# Altium integrated library Sterownik.IntLib: 54 symbols
Pins are listed as number, name and electrical type; pins without a type are passive.

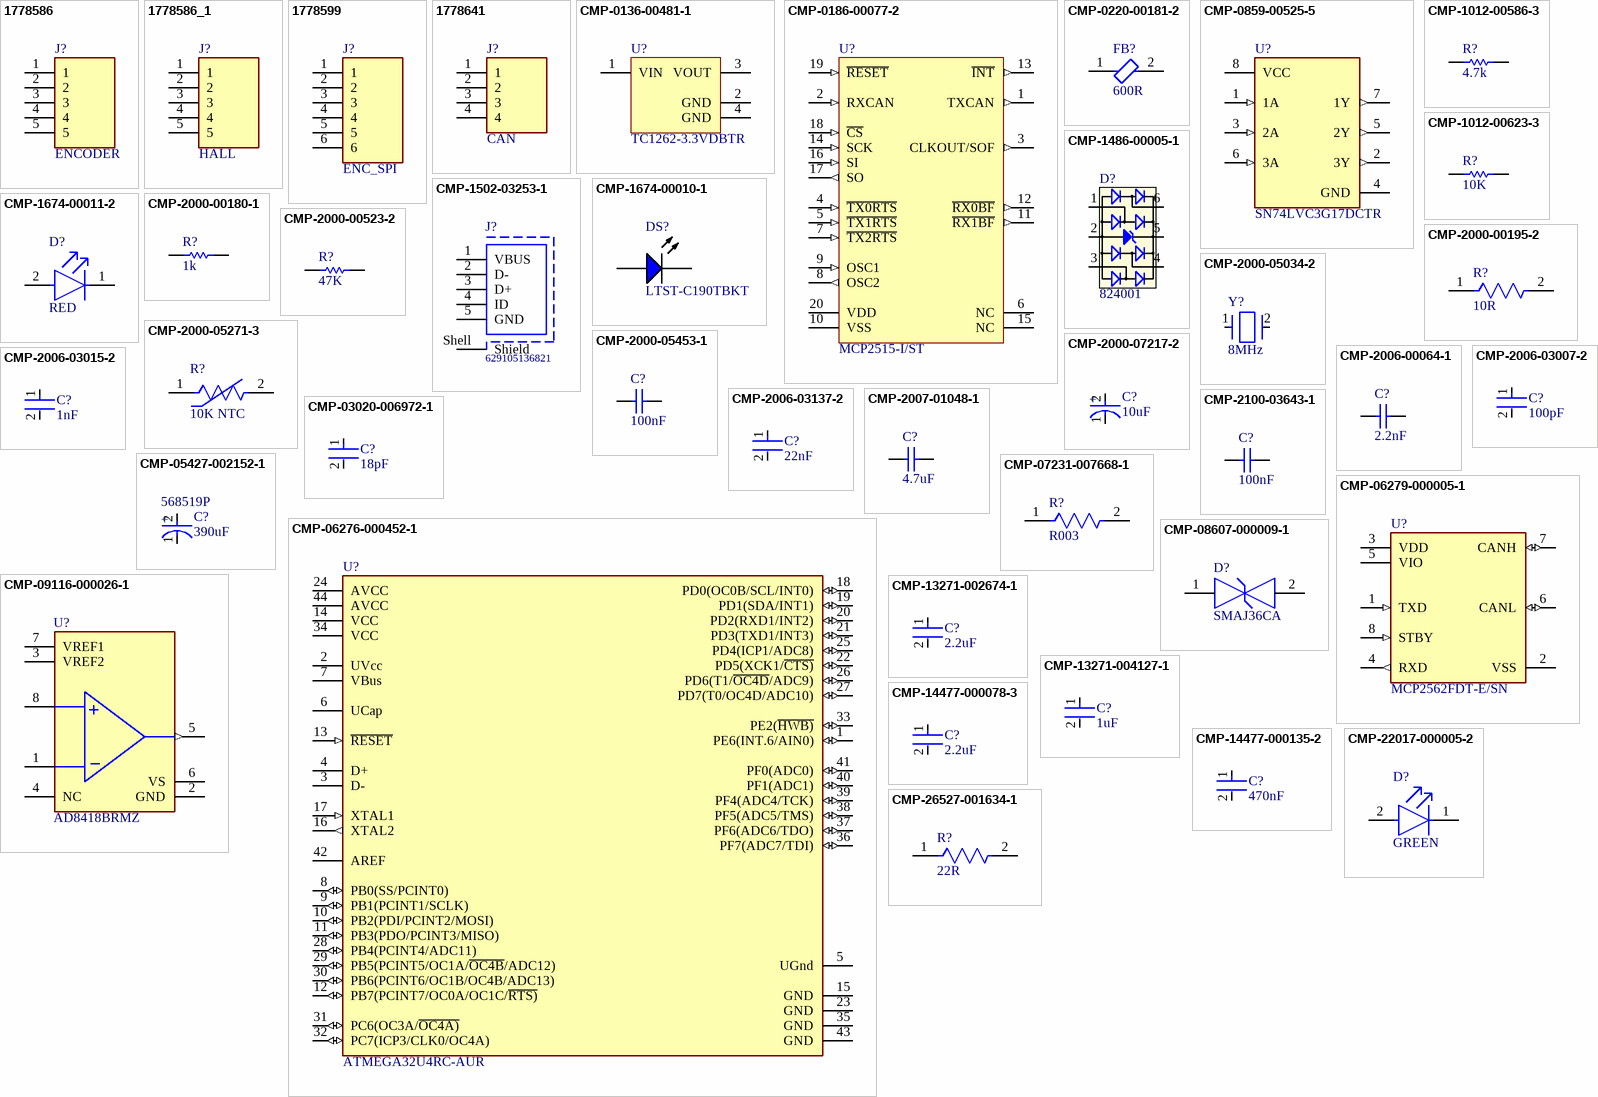
[diagram p0: symbols 1778586 to CMP-26527-001634-1]

## 1778586
designator J?, comment ENCODER
PCB header, nominal cross section: 0.5 mm?, color: black, nominal current: 6 A, rated voltage (III/2): 160 V, contact surface: Tin, type of contact: Male connector, Number of potentials: 6, Number of rows: 1, Number of positions per row: 6, number of connections: 6, product range: PTSM 0,5/..-HH-THR, pitch: 2.5 mm, mounting: THR soldering, pin layout: Linear pinning, solder pin [P]: 2.1 mm, Stecksystem: COMBICON COMPACT PTSM, Locking: without, type of packaging: 32 mm wide tape
footprint PTSM5
pins: 1, 2, 3, 4, 5

## 1778586_1
designator J?, comment HALL
PCB header, nominal cross section: 0.5 mm?, color: black, nominal current: 6 A, rated voltage (III/2): 160 V, contact surface: Tin, type of contact: Male connector, Number of potentials: 6, Number of rows: 1, Number of positions per row: 6, number of connections: 6, product range: PTSM 0,5/..-HH-THR, pitch: 2.5 mm, mounting: THR soldering, pin layout: Linear pinning, solder pin [P]: 2.1 mm, Stecksystem: COMBICON COMPACT PTSM, Locking: without, type of packaging: 32 mm wide tape
footprint PTSM5
pins: 1, 2, 3, 4, 5

## 1778599
designator J?, comment ENC_SPI
PCB header, nominal cross section: 0.5 mm?, color: black, nominal current: 6 A, rated voltage (III/2): 160 V, contact surface: Tin, type of contact: Male connector, Number of potentials: 5, Number of rows: 1, Number of positions per row: 5, number of connections: 5, product range: PTSM 0,5/..-HH-THR, pitch: 2.5 mm, mounting: THR soldering, pin layout: Linear pinning, solder pin [P]: 2.1 mm, Stecksystem: COMBICON COMPACT PTSM, Locking: without, type of packaging: 32 mm wide tape
footprint PTSM6
pins: 1, 2, 3, 4, 5, 6

## 1778641
designator J?, comment CAN
PCB header, nominal cross section: 0.5 mm?, color: black, nominal current: 6 A, rated voltage (III/2): 160 V, contact surface: Tin, type of contact: Male connector, Number of potentials: 4, Number of rows: 1, Number of positions per row: 4, number of connections: 4, product range: PTSM 0,5/..-HH-THR, pitch: 2.5 mm, mounting: THR soldering, pin layout: Linear pinning, solder pin [P]: 2.1 mm, Stecksystem: COMBICON COMPACT PTSM, Locking: without, type of packaging: 32 mm wide tape; Manufacturer_Name: Phoenix Contact; Manufacturer_Part_Number: 1778641; Geometry.Height: 5.1mm; Mouser Part Number: 651-1778641; Mouser Price/Stock: https://www.mouser.co.uk/ProductDetail/Phoenix-Contact/1778641?qs=i0qWf6NAoDs%252BwkQoFV1ycQ%3D%3D; Arrow Part Number: 1778641; Arrow Price/Stock: https://www.arrow.com/en/products/1778641/phoenix-contact?region=nac; Datasheet Link: http://www.phoenixcontact.com/de/produkte/1778641/pdf
footprint SHDRRA4W60P0X250_1X4_1170X750X510P
pins: 1, 2, 3, 4

## CMP-0136-00481-1
designator U?, comment TC1262-3.3VDBTR
500mA Fixed Output CMOS LDO, 3-Pin SOT-223, Extended Temperature, Tape and Reel; PackageVersion: revBB, Aug-2009; PackageDescription: 3-Lead Plastic Small Outline Transistor (DB) [SOT-223]; DatasheetVersion: revB, 2002; PackageReference: SOT-223-DB3
footprint SOT-223-DB3_M (SOT223, 4-Leads, Body 6.5x3.5mm, Pitch 2.3mm, Lead Span 7mm, IPC Low Density)
footprint SOT-223-DB3_L (SOT223, 4-Leads, Body 6.5x3.5mm, Pitch 2.3mm, Lead Span 7mm, IPC High Density)
footprint SOT-223-DB3_N (SOT223, 4-Leads, Body 6.5x3.5mm, Pitch 2.3mm, Lead Span 7mm, IPC Medium Density)
pins: 1 VIN (power), 2 GND (power), 3 VOUT (power), 4 GND (power)

## CMP-0186-00077-2
designator U?, comment MCP2515-I/ST
Stand-Alone CAN Controller With SPI Interface, 20-Pin TSSOP, Industrial Temperature; DatasheetVersion: revF, Oct-2010; ComponentLink1Description: Manufacturer URL; PackageDescription: 20-Lead Plastic Thin Shrink Small Outline (ST) - 4.4mm Body [TSSOP]; ComponentLink1URL: http://www.microchip.com/; RevisionNote: URLs added. DatasheetVersion updated.; PackageReference: TSSOP-ST20; Code_JEDEC: MO-153-AC; ComponentLink2Description: Datasheet; ComponentLink2URL: http://ww1.microchip.com/downloads/en/DeviceDoc/21801f.pdf; PackageVersion: revBB, Aug-2009; ComponentLink3URL: http://www.microchip.com/stellent/groups/techpub_sg/documents/packagingspec/en012702.pdf; ComponentLink3Description: Package Specification
footprint TSSOP-ST20_N (TSOP, 20-Leads, Body 6.5x4.4mm, Pitch 0.65mm, IPC Medium Density)
footprint TSSOP-ST20_M (TSOP, 20-Leads, Body 6.5x4.4mm, Pitch 0.65mm, IPC Low Density)
footprint TSSOP-ST20_L (TSOP, 20-Leads, Body 6.5x4.4mm, Pitch 0.65mm, IPC High Density)
pins: 1 TXCAN (out), 2 RXCAN (in), 3 CLKOUT/SOF (out), 4 ~{TX0RTS} (in), 5 ~{TX1RTS} (in), 6 NC, 7 ~{TX2RTS} (in), 8 OSC2 (out), 9 OSC1 (in), 10 VSS (power), 11 ~{RX1BF} (out), 12 ~{RX0BF} (out), 13 ~{INT} (out), 14 SCK (in), 15 NC, 16 SI (in), 17 SO (out), 18 ~{CS} (in), 19 ~{RESET} (in), 20 VDD (power)

## CMP-0220-00181-2
designator FB?, comment 600R
FERRITE BEAD 600 OHM 0603 1LN; Tolerance: 25%; DC Resistance (DCR): 200mR; Inductance: 0.36H; Current Rating: 1A; Test Frequency: 100MHz; Number of Lines: 1; Length: 1.6mm; Termination: SMD/SMT; Case Code (Metric): 1608; Case/Package: SMD/SMT; Min Operating Temperature: -55°C; Resistance: 200mR; Height: 0.8mm; Width: 0.8mm; Max Operating Temperature: 125°C; Package Quantity: 1; Mount: Surface Mount; Max DC Current: 1A; Max Current Rating: 1A; Weight: 0.000141oz; Packaging: Tape and Reel; Lead Free: Lead Free; Case Code (Imperial): 0603; Series: WE-CBF; Impedance: 600R; Core Material: Ferrite; Material: Ferrite; RoHS Compliant: Yes; Depth: 0.8mm
footprint FP-742792651-MFG
footprint FP-742792651-IPC_C
footprint FP-742792651-IPC_B
footprint FP-742792651-IPC_A
pins: 1, 2

## CMP-0859-00525-5
designator U?, comment SN74LVC3G17DCTR
IC BUFFER NON-INVERT 5.5V SM8; Manufacturer: Texas Instruments; Logic Function Desc: Non-Inverting; Propagation Delay: 5.1ns; Number Of Inputs: 3; Standoff Height: 0mm; Nominal Supply Current: 10uA; Min Supply Voltage: 1.65V; ComponentLink2URL: http://www.ti.com/lit/ds/symlink/sn74lvc3g17.pdf; Temperature: -40°C to +125°C; Device Class L1: Integrated Circuits (ICs); Mouser Description: Buffers & Line Drivers TRIPLE SCHMITT- TRIGGER BUFFER; Temperature Range Low: -40°C; Octopart: https://octopart.com/sn74lvc3g17dctr-texas+instruments-423176; Number Of Outputs: 3; Manufacturer Part Number: SN74LVC3G17DCTR; Device Class L2: Logic ICs; Ambient Temperature Range Low: -40°C; Max Supply Voltage: 5.5V; Automotive: No; Temperature Range High: +125°C; Category: IC; Digikey Description: IC BUFFER NON-INVERT 5.5V SM8; Package: DCT0008A; Device Class L3: Buffers; Height: 1.3mm; RoHS: TRUE; Lead Free: Yes; Ambient Temperature Range High: +125°C; Ipc Land Pattern Name: SOP65P400X130-8; ComponentLink2Description: Datasheet; Number Of Circuits: 3
footprint FP-DCT0008A-MFG
footprint FP-DCT0008A-IPC_C
footprint FP-DCT0008A-IPC_B
footprint FP-DCT0008A-IPC_A
pins: 1 1A (in), 2 3Y (out), 3 2A (in), 4 GND (power), 5 2Y (out), 6 3A (in), 7 1Y (out), 8 VCC (power)

## CMP-1012-00586-3
designator R?, comment 4.7k
Precision Thick Film Chip Resistor, 4.7 KOhm, +/- 1%, -55 to 155 degC, 0603 (1608 Metric), RoHS, Tape and Reel; Resistance: 220 Ohm; Voltage Rating: 50 V; Elements: 4; Case\Package: 1205; Tolerance: 5%; Power Rating: 250 mW; PackageReference: 0603; Max Operating Temperature: 125 degC; REACH SVHC: No SVHC; Width: 0.063 inch; Length: 0.126 inch; Height: 0.024 inch; Mount: Surface Mount; Package Quantity: 1; DatasheetVersion: Apr-15; ComponentLink1Description: Manufacturer URL; Min Operating Temperature: -55 degC; Packaging: Tape and Reel; Radiation Hardening: No; ComponentLink2URL: http://industrial.panasonic.com/cdbs/www-data/pdf/RDA0000/AOA0000C86.pdf; Case Code (Metric): 3216; Pins: 8; Case Code (Imperial): 1206; Type (Resistor): Thick Film; RoHSCompliant: true; ComponentLink2Description: Datasheet; PackageDescription: 2-Pin Surface Mount Device, Body 1.6 x 0.85 mm; ComponentLink1URL: http://www.panasonic.com/
footprint RESC1608X55X30NL15T15 (Chip Resistor, 2-Leads, Body 1.75x0.95mm, IPC Medium Density)
footprint RESC1608X55X30ML15T15 (Chip Resistor, 2-Leads, Body 1.75x0.95mm, IPC Low Density)
footprint RESC1608X55X30LL15T15 (Chip Resistor, 2-Leads, Body 1.75x0.95mm, IPC High Density)
pins: 1, 2

## CMP-1012-00623-3
designator R?, comment 10K
Chip Resistor, 10 KOhm, +/- 1%, 0.1 W, -55 to 155 degC, 0603 (1608 Metric), RoHS, Tape and Reel; Manufacturer: Panasonic; Voltage Rating: 75V; Case\/Package: 0603; Power Rating: 100mW; Resistance: 10KOhm; Temperature Coefficient: 100ppm\/degreesC; Number of Pins: 2; Package Reference: 603; Depth: 0.8mm; Mount: SurfaceMount; Package Description: 2-Pin Surface Mount Device, Body 1.6 x 0.85 mm; Datasheet Version: 02/2017; Length: 1.6mm; Lead Free: LeadFree; Height: 0.45mm; Number of Terminations: 2; Max Power Dissipation: 100mW; Min Operating Temperature: -55degC; Datasheet URL: https://industrial.panasonic.com/cdbs/www-data/pdf/RDA0000/AOA0000C304.pdf; Termination: SMD/SMT; Case Code (Metric): 1608; Case Code (Imperial): 0603; Tolerance: 1%; Max Operating Temperature: 155degC; RoHSCompliant: true; Voltage Rating (DC): 75V; Radiation Hardening: No; Packaging: TapeandReel; Composition: ThickFilm; Mounting Technology: SurfaceMount; Manufacturer URL: http://www.panasonic.com/; Width: 0.031inch; REACH SVHC: NoSVHC; Contact Plating: Tin; Military Standard: Not; Package Quantity: 1
footprint RESC1609X55X30LL15T15 (Chip Resistor, 2-Leads, Body 1.75x0.95mm, IPC High Density)
footprint RESC1609X55X30ML15T15 (Chip Resistor, 2-Leads, Body 1.75x0.95mm, IPC Low Density)
footprint RESC1609X55X30NL15T15 (Chip Resistor, 2-Leads, Body 1.75x0.95mm, IPC Medium Density)
pins: 1, 2

## CMP-1486-00005-1
designator D?, comment 824001
TVS Diode WE-TVS-HS, VRWM=5V; Manufacturer: Wuerth Elektronik; Reverse Stand Off Voltage: 5V; ComponentLink2Description: Datasheet; ComponentLink1URL: http://www.we-online.com; ComponentLink2URL: http://katalog.we-online.de/kataloge/eisos/media/pdf/824001.pdf; ComponentLink1Description: Manufacturer URL; PartNumber: 824001; PackageReference: SOT23_6L
footprint SOT23_6L (SOT23_6L, 6-Leads, Body 3.60x2.9mm, Pitch 0.95mm)
pins: 1 I/O1, 2 GND, 3 I/O2, 4 I/O3, 5 VDD, 6 I/O4

## CMP-1502-03253-1
designator J?, comment 629105136821
Micro USB 2.0 Type B Receptacle WR-COM, Horizontal, SMT, with Pads and Pegs; Manufacturer: Wurth Elektronik; Contact Resistance: 30mOhm; Rated Current: 1A; Working Voltage: 30VAC; Datasheet URL: https://katalog.we-online.de/em/datasheet/629105136821.pdf; Mounting Technology: SMT; Publisher: WurthElektronik; Package Reference: 629105136821; Orientation: Horizontal; Packaging: TapeandReel; Part Number: 629105136821; Manufacturer URL: http://www.we-online.de; Connector Type: MicroUSB2.0TypeB; Gender: Receptacle; Operating Temperature: -40to105degC
footprint 629105136821 (Micro USB 2.0 SMT Type B Horizontal 5 Contacts)
pins: 1 VBUS, 2 D-, 3 D+, 4 ID, 5 GND, Shell Shield

## CMP-1674-00010-1
designator DS?, comment LTST-C190TBKT
Single Color Chip LED, 2.8 to 3.8 V, 28 to 180 mcd, -20 to 80 degC, 2-Pin SMD, RoHS, Tape and Reel; Nominal Supply Voltage: 3 V; Min Supply Voltage: 2.1 V; Interface: Serial; Case\Package: DFN; Max Supply Voltage: 3.6 V; Min Operating Temperature: -40 degC; ComponentLink2URL: http://optoelectronics.liteon.com/upload/download/DS-22-99-0224/S_110_LTST-C190TBKT(0630).pdf; Length: 3 mm; PackageReference: C190TBKT-2; Packaging: Cut Tape; RoHSCompliant: true; DatasheetVersion: Rev. K, 08/2011; Width: 3 mm; Pins: 6; Height: 1.1 mm; Max Operating Temperature: 125 degC; Mount: Surface Mount; PackageDescription: 2-Pin Surface Mount Device, Body 1.6 x 0.8 mm; ComponentLink1Description: Manufacturer URL; ComponentLink1URL: http://www.us.liteon.com/; REACH SVHC: No SVHC; ComponentLink2Description: Datasheet
footprint LTST-C190TBKT-2_V (SMD, 2-Leads, Body 1.6x0.8mm)
pins: 1 A, 2 K

## CMP-1674-00011-2
designator D?, comment RED
LED RED CLEAR CHIP SMD; Reverse Voltage: 5V; Viewing Angle: 130°; Power Rating: 75mW; Test Current: 20mA; Number of Elements: 1; Lens Color: Colorless; Wavelength: 639nm; Dominant Wavelength: 631nm; Lens Style: Diffused; Forward Current: 30mA; Forward Voltage: 2.4V; Luminous Intensity: 54mcd; Color: Red; Case Code (Imperial): 0603; Lens Transparency: Clear; Lead Free: Lead Free; Package Quantity: 1; Packaging: Tape and Reel; Max Operating Temperature: 85°C; Number of Pins: 2; Height: 0.8mm; Case/Package: 0603; Number of LEDs: 1; Width: 0.8mm; Case Code (Metric): 1608; Depth: 0.8mm; Mount: Surface Mount; Radiation Hardening: No; Length: 1.6mm; Illumination Color: Red; Power Dissipation: 75mW; Min Operating Temperature: -55°C
footprint FP-LTST-C190KRKT-MFG
pins: 1 C, 2 A

## CMP-2000-00180-1
designator R?, comment 1k
Part Number: ERJ-3EKF1001V; Manufacturer: Panasonic
footprint RESC1608X55X30LL15T15 (Chip Resistor, 2-Leads, Body 1.60x0.80mm, IPC High Density)
footprint RESC1608X55X30ML15T15 (Chip Resistor, 2-Leads, Body 1.60x0.80mm, IPC Low Density)
footprint RESC1608X55X30NL15T15 (Chip Resistor, 2-Leads, Body 1.60x0.80mm, IPC Medium Density)
pins: 1, 2
1 alternate drawing of the same symbol

## CMP-2000-00195-2
designator R?, comment 10R
RES SMD 10 OHM 1% 1/10W 0603; Manufacturer Part Number: ERJ-3EKF10R0V; Manufacturer: Panasonic; Resistance: 10Ω; Voltage Rating: 75V; Value: 10Ω; Power: 100mW; Power Rating: 0.1W; Temperature Coefficient: 100ppm/°C; Automotive Grade: Grade 0; Lead Free: Yes; Device Class L1: Passive Components; Digikey Description: RES SMD 10 OHM 1% 1/10W 0603; Octopart: https://octopart.com/erj-3ekf10r0v-panasonic-55403649; Automotive: Yes; ComponentLink2URL: https://b2b-api.panasonic.eu/file_stream/pids/fileversion/1263; Height: 0.55mm; Temperature Range High: +155°C; Footprint Url: https://industrial.panasonic.com/cdbs/www-data/pdf/RDA0000/DMA0000COL17.pdf; Temperature: -55°C to +155°C; Tolerance: 1%; ComponentLink2Description: Datasheet; Package: ERJ3EK; Device Class L2: Resistors; Category: Res; Ipc Land Pattern Name: RESC16080X45; RoHS: TRUE; Composition: Thick Film; Device Class L3: Chip SMD Resistors; Temperature Range Low: -55°C; Series: ERJ
footprint FP-ERJ3EK-MFG
footprint FP-ERJ3EK-IPC_C
footprint FP-ERJ3EK-IPC_B
footprint FP-ERJ3EK-IPC_A
pins: 1, 2

## CMP-2000-00523-2
designator R?, comment 47K
Chip Resistor, 47 KOhm, +/- 1%, 0.1 W, -55 to 155 degC, 0603 (1608 Metric), RoHS, Tape and Reel; Case\Package: 0603; Forward Current: 20 mA; Power Rating: 90 mW; Illumination Colour: Red; Nominal Vf: 2.1 V; Viewing Angle: 160 degrees; Luminous Intensity: 63 mcd; Lens Style: Clear; Nominal Wavelength: 639 nm; Case Code (Imperial): 0603; Case Code (Metric): 1608; Packaging: Tape and Reel; Radiation Hardening: No; Colour: Red; PackageDescription: 2-Pin Surface Mount Device, Body 1.6 x 0.85 mm; ComponentLink1Description: Manufacturer URL; Width: 0.8 mm; DatasheetVersion: Apr-15; ComponentLink2URL: http://industrial.panasonic.com/cdbs/www-data/pdf/RDA0000/AOA0000C86.pdf; Min Operating Temperature: -40 degC; Height: 0.6 mm; Package Quantity: 3000; ComponentLink2Description: Datasheet; REACH SVHC: No SVHC; ComponentLink1URL: http://www.panasonic.com/; Mount: Surface Mount; RoHSCompliant: true; Max Operating Temperature: 100 degC; PackageReference: 0603; Length: 1.6 mm; Forward Voltage: 2.1 V; Pins: 2
footprint RESC1608X55X30NL15T15 (Chip Resistor, 2-Leads, Body 1.75x0.95mm, IPC Medium Density)
footprint RESC1608X55X30LL15T15 (Chip Resistor, 2-Leads, Body 1.75x0.95mm, IPC High Density)
footprint RESC1608X55X30ML15T15 (Chip Resistor, 2-Leads, Body 1.75x0.95mm, IPC Low Density)
pins: 1, 2

## CMP-2000-05034-2
designator Y?, comment 8MHz
Crystal 8MHz ±20ppm 18pF SMD-2 6mm x 3.5mm; ESR (Equivalent Series Resistance): 100R; Series Resistance: 80R; Frequency Stability: 30ppm; Resistor Type: Ceramic; Radiation Hardening: No; Height: 0.055inch; Packaging: Tape and Reel; Lead Free: Lead Free; Min Operating Temperature: -40°C; Termination: SMD/SMT; REACH SVHC: Yes; Number of Pins: 2; Mount: Surface Mount; Case/Package: CSMD; Tolerance: 20ppm; Max Operating Temperature: 85°C; Series: ABM7; Frequency Tolerance: 20ppm; Load Capacitance: 18pF; Length: 6mm; Frequency: 8MHz; Width: 0.138inch; Package Quantity: 1000; Depth: 3.5mm; Operating Frequency: 8 MHz
footprint FP-ABM7-MFG
pins: 1, 2

## CMP-2000-05271-3
designator R?, comment 10K NTC
NTC Thermistor for Temperature Sensor, 0603, 10kΩ, 1%, 0.1mA, 5V; Manufacturer Series: NCP18; Accuracy: 0.7%; Current Rating: 310uA; Max Power Dissipation: 100mW; Thermistor Application: TEMPERATURE COMPENSATION; Number of Terminals/Pins: 2; Resistance: 10kR; Case Code (Metric): 1608; RoHS Compliant: Yes; Max Operating Temperature: 125°C; Resistance Tolerance: 1%; Case/Package: 0603; Mount: Surface Mount; Lead Free: Lead Free; Min Operating Temperature: -40°C; REACH SVHC: No SVHC; Package Shape: Rectangular; Radiation Hardening: No; Series: NCP; Depth: 0.8mm; Number of Pins: 2; Length: 1.6mm; Height: 0.8mm; Terminal Placement: Dual; Tolerance: 1%; Case Code (Imperial): 0603; Terminal Finish: Tin; Power Rating: 100mW; Termination: SMD/SMT; Packaging: Tape and Reel; Package Quantity: 1
footprint FP-NCP18-0_15-IPC_A
footprint FP-NCP18-0_15-MFG
footprint FP-NCP18-0_15-IPC_C
footprint FP-NCP18-0_15-IPC_B
pins: 1, 2

## CMP-2000-05453-1
designator C?, comment 100nF
Chip Capacitor, 100 nF, +/- 10%, 100 V, -55 to 1255 degC, 0805 (2012 Metric), RoHS, Tape and Reel; Manufacturer: TDK; PCN Part Number: MLCCPartNumberChange30/Nov/2012; Temperature Coefficient: X7R; Voltage - Rated: 100V; Kits: SAMPLEKIT1008-ND-KITCAPCERMLCC100V-630V; Other Names: 445-1418-1; Online Catalog: CSeries,MidVoltage; Featured Product: C-SeriesMidVoltageMLCCs; Catalog Drawings: CSERIES_2012-0805_1.45; Product Training Modules: HighCapacitanceReplacementSEAT,CCV,andTVCLDesignToolsGuidetoReplacinganElectrolyticCapacitorwithanMLCC; Capacitance: 0.1µF; Applications: GeneralPurpose; Datasheet Version: Jul-13; Mounting Type: SurfaceMount,MLCC; Height - Seated (Max): -; Packaging: CutTape(CT); Datasheet URL: https://datasheet.ciiva.com/11788/0900766b80fc5cba-11788142.pdf; Tolerance: ±10%; Package Reference: 805; Manufacturer URL: http://www.tdk.com/; Thickness (Max): 0.057"(1.45mm); Series: C; Lead Style: -; Operating Temperature: -55degC~125degC; Category: Capacitors; Package Description: 2-Pin Surface Mount Device, Body 2 x 1.25 mm; Standard Package: 1; Package / Case: 0805(2012Metric); Family: CeramicCapacitors; RoHS Information: RoHSCertificate-MLCC; Size / Dimension: 0.079"Lx0.049"W(2.00mmx1.25mm); Lead Spacing: -; Ratings: -; Features: -
footprint CAPC2013X145X20ML20 (Chip Capacitor, 2-Leads, Body 2.20x1.45mm, IPC Low Density)
footprint CAPC2013X145X20NL20 (Chip Capacitor, 2-Leads, Body 2.20x1.45mm, IPC Medium Density)
footprint CAPC2013X145X20LL20 (Chip Capacitor, 2-Leads, Body 2.20x1.45mm, IPC High Density)
pins: 1, 2

## CMP-2000-07217-2
designator C?, comment 10uF
10uF 10V  ±10% 3Ω 1206  SMD Tantalum Capacitor; ESR (Equivalent Series Resistance): 3R; Dissipation Factor: 6%; Leakage Current: 1uA; Polarity: Polar; Q Factor: 6; Case Code (Imperial): 1206; RoHS Compliant: Yes; Case Code (Metric): 3216; Voltage Rating (DC): 10V; REACH SVHC: No SVHC; Mount: Surface Mount; Package Quantity: 1; Radiation Hardening: No; Width: 1.6mm; Depth: 1.6mm; Packaging: Tape and Reel; Termination: SMD/SMT; Length: 3.2mm; Tolerance: 10%; Features: General Purpose; Capacitance: 10uF; Case/Package: 1206; Max Operating Temperature: 125°C; Voltage Rating: 10V; Height - Seated (Max): 0.071inch; Series: TAJ; Height: 1.6mm; Min Operating Temperature: -55°C; Voltage: 10V; Number of Pins: 2; Construction: Flat; Dielectric Material: Tantalum; Lead Free: Lead Free
footprint FP-TAJA-MFG
pins: 1 C, 2 A
text: +

## CMP-2006-00064-1
designator C?, comment 2.2nF
Manufacturer: Vitramon; Part Number: VJ0603Y222KXACW1BC
footprint CAPC1608X95X40ML15T15 (Chip Capacitor, 2-Leads, Body 1.60x0.80mm, IPC Low Density)
footprint CAPC1608X95X40NL15T15 (Chip Capacitor, 2-Leads, Body 1.60x0.80mm, IPC Medium Density)
footprint CAPC1608X95X40LL15T15 (Chip Capacitor, 2-Leads, Body 1.60x0.80mm, IPC High Density)
pins: 1, 2
1 alternate drawing of the same symbol

## CMP-2006-03007-2
designator C?, comment 100pF
CAP CER 100PF 50V 10% X7R 0603; Manufacturer: KEMET; Manufacturer Part Number: C0603C101K5RACTU; Tolerance: 0.1; Material: Ceramic; Temperature Coefficient: 30ppm/°C; Automotive Grade: Grade 1; Value: 100 pF; RoHS: TRUE; ComponentLink2Description: Datasheet; Device Class L2: Capacitors; Category: Cap; Package: C0603C-CF; Automotive: Yes; Temperature Range High: +125°C; Temperature Range Low: -55°C; Temperature Characteristic: X7R; Device Class L3: Ceramic Capacitors; Mouser Description: Multilayer Ceramic Capacitors MLCC - SMD/SMT 50volts 100pF 10%; Device Class L1: Passive Components; Capacitance: 100 pF; Height: 0.87mm; ComponentLink2URL: https://api.kemet.com/component-edge/download/datasheet/C0603C100J5GACAUTO.pdf; Temperature: -55°C to +125°C; Octopart: https://octopart.com/c0603c101k5ractu-kemet-10561249; Digikey Description: CAP CER 100PF 50V 10% X7R 0603; Voltage Rating: 50 V; Lead Free: Yes
footprint FP-C0603C-CF-MFG
footprint FP-C0603C-CF-IPC_C
footprint FP-C0603C-CF-IPC_B
footprint FP-C0603C-CF-IPC_A
pins: 1, 2

## CMP-2006-03015-2
designator C?, comment 1nF
CAP CER 1000PF 100V 10% X7R 0603; Manufacturer: KEMET; Manufacturer Part Number: C0603C102K1RACTU; Value: 1,000 pF; Tolerance: 0.1; Automotive Grade: Grade 1; Temperature Coefficient: 30ppm/°C; Material: Ceramic; Temperature Range High: +125°C; RoHS: TRUE; Temperature Range Low: -55°C; ComponentLink2URL: https://api.kemet.com/component-edge/download/datasheet/C0603C100J5GACAUTO.pdf; Lead Free: Yes; Device Class L2: Capacitors; Voltage Rating: 100 V; Package: C0603C-CF; Category: Cap; Temperature: -55°C to +125°C; Device Class L3: Ceramic Capacitors; Mouser Description: Multilayer Ceramic Capacitors MLCC - SMD/SMT 100volts 1000pF X7R 10%; Height: 0.87mm; ComponentLink2Description: Datasheet; Digikey Description: CAP CER 1000PF 100V 10% X7R 0603; Temperature Characteristic: X7R; Capacitance: 1,000 pF; Automotive: Yes; Octopart: https://octopart.com/c0603c102k1ractu-kemet-9138575; Device Class L1: Passive Components
footprint FP-C0603C-CF-MFG
footprint FP-C0603C-CF-IPC_C
footprint FP-C0603C-CF-IPC_B
footprint FP-C0603C-CF-IPC_A
pins: 1, 2

## CMP-2006-03137-2
designator C?, comment 22nF
CAP CER 0.022UF 100V X7R 0603; Manufacturer: KEMET; Manufacturer Part Number: C0603C223K1RACTU; Material: Ceramic; Temperature Coefficient: 30ppm/°C; Value: 22,000 pF; Tolerance: 0.1; Automotive Grade: Grade 1; Voltage Rating: 100 V; Temperature Range High: +125°C; Temperature: -55°C to +125°C; Digikey Description: CAP CER 0.022UF 100V X7R 0603; Lead Free: Yes; ComponentLink2Description: Datasheet; Height: 0.87mm; Category: Cap; Device Class L3: Ceramic Capacitors; Device Class L2: Capacitors; Octopart: https://octopart.com/c0603c223k1ractu-kemet-150702; Package: C0603C-CF; Temperature Characteristic: X7R; Automotive: Yes; ComponentLink2URL: https://api.kemet.com/component-edge/download/datasheet/C0603C100J5GACAUTO.pdf; Capacitance: 22,000 pF; Temperature Range Low: -55°C; Device Class L1: Passive Components; RoHS: TRUE; Mouser Description: Multilayer Ceramic Capacitors MLCC - SMD/SMT 100volts 0.022uF 10% X7R
footprint FP-C0603C-CF-MFG
footprint FP-C0603C-CF-IPC_C
footprint FP-C0603C-CF-IPC_B
footprint FP-C0603C-CF-IPC_A
pins: 1, 2

## CMP-2007-01048-1
designator C?, comment 4.7uF
Part Number: C0805C475K4RACTU; Manufacturer: Kemet
footprint CAPC2013X145X50ML20T25 (Chip Capacitor, 2-Leads, Body 2.00x1.25mm, IPC Low Density)
footprint CAPC2013X145X50LL20T25 (Chip Capacitor, 2-Leads, Body 2.00x1.25mm, IPC High Density)
footprint CAPC2013X145X50NL20T25 (Chip Capacitor, 2-Leads, Body 2.00x1.25mm, IPC Medium Density)
pins: 1, 2
1 alternate drawing of the same symbol

## CMP-2100-03643-1
designator C?, comment 100nF
Chip Capacitor, 0.1 uF, +/- 10%, 50 V, -55 to 125 degC, 0603 (1608 Metric), RoHS, Tape and Reel; Manufacturer: Murata; Dielectric Material: Ceramic; Voltage Rating: 50V; Dielectric: X7R; Insulation Resistance: 10GR; Case Code (Metric): 1608; Lead Free: LeadFree; Depth: 0.8mm; Number of Pins: 2; Radiation Hardening: No; Case/Package: 0603; Manufacturer URL: http://www.murata.com/; Packaging: TapeandReel; Length: 1.6mm; Contact Plating: Tin; Datasheet URL: http://psearch.en.murata.com/capacitor/product/GRM188R71H104KA93%23.pdf; Tolerance: 10%; Case Code (Imperial): 0603; Min Operating Temperature: -55degC; RoHSCompliant: true; Capacitance: 100nF; Voltage: 50V; Termination: SMD/SMT; Mount: SurfaceMount; Material: Ceramic; Package Quantity: 1; Height: 0.8mm; Thickness: 0.035inch; REACH SVHC: NoSVHC; Max Operating Temperature: 125degC; Width: 0.8mm; Package Reference: 0603; Voltage Rating (DC): 50V; Datasheet Version: 42675.0; Package Description: 2-Pin Surface Mount Device, Body 1.6 x 0.8 mm
footprint CAPC1608X90X35ML10T15 (Chip Capacitor, 2-Leads, Body 1.7x0.9mm, IPC Low Density)
footprint CAPC1608X90X35NL10T15 (Chip Capacitor, 2-Leads, Body 1.7x0.9mm, IPC Medium Density)
footprint CAPC1608X90X35LL10T15
pins: 1, 2

## CMP-03020-006972-1
designator C?, comment 18pF
C0603 18 pF X8R 30ppm/°C 10.00% 16 V; Manufacturer: KEMET; Manufacturer Part Number: C0603C180K4HAC7867; Material: Ceramic; Automotive Grade: Grade 1; Voltage Rating: 16 V; Tolerance: 0.1; Temperature Coefficient: 30ppm/°C; Temperature Range High: +125°C; ComponentLink2Description: Datasheet; Device Class L2: Capacitors; Package: C0603C-CF; RoHS: TRUE; Octopart: https://octopart.com/c0603c180k4hac7867-kemet-88085547; Device Class L1: Passive Components; Temperature Range Low: -55°C; Temperature: -55°C to +125°C; Device Class L3: Ceramic Capacitors; Automotive: Yes; Value: 18 pF; Height: 0.87mm; ComponentLink2URL: https://api.kemet.com/component-edge/download/datasheet/C0603C100J5GACAUTO.pdf; Capacitance: 18 pF; Temperature Characteristic: X8R; Category: Cap; Lead Free: Yes
footprint FP-C0603C-CF-MFG
footprint FP-C0603C-CF-IPC_C
footprint FP-C0603C-CF-IPC_B
footprint FP-C0603C-CF-IPC_A
pins: 1, 2

## CMP-05427-002152-1
designator C?, comment 390uF  Supplier Part Number 1: 568519P
Cap Aluminum 390uF 35V 20% (10 X 10.2mm) SMD 0.08 Ohm 850mA 2000 hr 105°C Embossed T/R; Manufacturer: Panasonic; Manufacturer Part Number: EEE-FPV391UAP; Life (Hours): 1000Hour; Leakage Current: 3uA; Ripple Current (AC): 670mA; Material: Aluminium; Impedance: 150mR; Mount: Surface Mount; Construction: Cylindrical; Ratings: AEC-Q200; Radiation Hardening: No; Height: 10.2mm; Height - Seated (Max): 0.402inch; Termination: SMD/SMT; Tolerance: 20%; Packaging: Tape and Reel; Min Operating Temperature: -40°C; Voltage: 35V; Case/Package: Radial; Length: 10.5mm; Ripple Current: 670mA; Contact Plating: Tin; Width: 900um; Voltage Rating (DC): 35V; Diameter: 10mm; Package Quantity: 500; Lead Free: Lead Free; Reach SVHC Compliant: Yes; Series: FC; Max Operating Temperature: 105°C; Voltage Rating: 35V; RoHS Compliant: Yes; ESR (Equivalent Series Resistance): 150mR; Supplier 1: Rs; RoHS: Yes; Category: Aluminum Electrolytic Capacitors; Stock 1: 1245; Mounting Technology: Surface Mount,PCB; Pins: 2; Dielectric Material: Aluminium; Value: 390uF; Lead Pitch: 4.6mm; ComponentLink1URL: https://datasheet.ciiva.com/11781/0900766b80df09a1-11781130.pdf?src-supplier=Rs; ComponentLink1Description: https://datasheet.ciiva.com/11781/0900766b80df09a1-11781130.pdf?src-supplier=Rs; ComponentLink2URL: https://datasheet.ciiva.com/43455/370232-43455030.pdf?src-supplier=Farnell; ComponentLink2Description: https://datasheet.ciiva.com/43455/370232-43455030.pdf?src-supplier=Farnell; ComponentLink3URL: https://datasheet.ciiva.com/46389/370232-46389113.pdf?src-supplier=Element14; ComponentLink3Description: https://datasheet.ciiva.com/46389/370232-46389113.pdf?src-supplier=Element14; ComponentLink4URL: https://datasheet.ciiva.com/6056/370232-6056250.pdf?src-supplier=Farnell; ComponentLink4Description: https://datasheet.ciiva.com/6056/370232-6056250.pdf?src-supplier=Farnell; ComponentLink5URL: https://datasheet.ciiva.com/46376/370232-46376775.pdf?src-supplier=Element14; ComponentLink5Description: https://datasheet.ciiva.com/46376/370232-46376775.pdf?src-supplier=Element14; ComponentLink6URL: https://datasheet.ciiva.com/48523/fp-eng-tds-48523563.pdf?src-supplier=Distrelec; ComponentLink6Description: https://datasheet.ciiva.com/48523/fp-eng-tds-48523563.pdf?src-supplier=Distrelec; ComponentLink7URL: https://datasheet.ciiva.com/46385/370232-46385721.pdf?src-supplier=Element14; ComponentLink7Description: https://datasheet.ciiva.com/46385/370232-46385721.pdf?src-supplier=Element14; ComponentLink8URL: https://datasheet.ciiva.com/14592/70068195-14592253.pdf?src-supplier=Allied+Electronics; ComponentLink8Description: https://datasheet.ciiva.com/14592/70068195-14592253.pdf?src-supplier=Allied+Electronics; ComponentLink9URL: https://datasheet.ciiva.com/14602/70068195-14602173.pdf?src-supplier=Allied+Electronics; ComponentLink9Description: https://datasheet.ciiva.com/14602/70068195-14602173.pdf?src-supplier=Allied+Electronics; ComponentLink10URL: https://datasheet.ciiva.com/2985/aba0000ce114-2985565.pdf?src-supplier=Avnet; ComponentLink10Description: https://datasheet.ciiva.com/2985/aba0000ce114-2985565.pdf?src-supplier=Avnet; ComponentLink11URL: https://datasheet.ciiva.com/2985/aba0000ce114-2985566.pdf?src-supplier=Avnet; ComponentLink11Description: https://datasheet.ciiva.com/2985/aba0000ce114-2985566.pdf?src-supplier=Avnet; ComponentLink12URL: https://datasheet.ciiva.com/30055/aba0000ce114-30055453.pdf?src-supplier=Onlinecomponents.com; ComponentLink12Description: https://datasheet.ciiva.com/30055/aba0000ce114-30055453.pdf?src-supplier=Onlinecomponents.com; ComponentLink13URL: https://datasheet.ciiva.com/29356/806562-da-01-en-smd-elko-vfp-g-390-uf-35-0-v-105c-29356474.pdf?src-supplier=Conrad; ComponentLink13Description: https://datasheet.ciiva.com/29356/806562-da-01-en-smd-elko-vfp-g-390-uf-35-0-v-105c-29356474.pdf?src-supplier=Conrad
footprint FP-FC-G-MFG
pins: 1 C, 2 A
text: +

## CMP-06276-000452-1
designator U?, comment ATMEGA32U4RC-AUR
IC MCU 8BIT 32KB FLASH 44TQFP; Number of Timers/Counters: 4; Min Supply Voltage: 2.7V; Number of I/Os: 26; Data Bus Width: 8b; Interface: I2C; Max Frequency: 16MHz; RAM Size: 2.5KB; Peripherals: Brown-out Detect/Reset; Oscillator Type: Internal; Core Architecture: AVR; Max Supply Voltage: 5.5V; Series: AVR® ATmega; Min Operating Temperature: -40°C; Number of Pins: 44; Memory Type: FLASH; Frequency: 16MHz; Mount: Surface Mount; Case/Package: TQFP; Packaging: Tape and Reel; Memory Size: 32KB; Package Quantity: 1500; Max Operating Temperature: 85°C
footprint FP-ML-MFG
footprint FP-ML-IPC_C
footprint FP-ML-IPC_B
footprint FP-ML-IPC_A
pins: 1 PE6(INT.6/AIN0) (io), 2 UVcc (power), 3 D-, 4 D+, 5 UGnd (power), 6 UCap, 7 VBus (power), 8 PB0(SS/PCINT0) (io), 9 PB1(PCINT1/SCLK) (io), 10 PB2(PDI/PCINT2/MOSI) (io), 11 PB3(PDO/PCINT3/MISO) (io), 12 PB7(PCINT7/OC0A/OC1C/~{RTS)} (io), 13 ~{RESET} (in), 14 VCC (power), 15 GND (power), 16 XTAL2 (out), 17 XTAL1 (in), 18 PD0(OC0B/SCL/INT0) (io), 19 PD1(SDA/INT1) (io), 20 PD2(RXD1/INT2) (io), 21 PD3(TXD1/INT3) (io), 22 PD5(XCK1/~{CTS)} (io), 23 GND (power), 24 AVCC (power), 25 PD4(ICP1/ADC8) (io), 26 PD6(T1/~{OC4D}/ADC9) (io), 27 PD7(T0/OC4D/ADC10) (io), 28 PB4(PCINT4/ADC11) (io), 29 PB5(PCINT5/OC1A/~{OC4B}/ADC12) (io), 30 PB6(PCINT6/OC1B/OC4B/ADC13) (io), 31 PC6(OC3A/~{OC4A)} (io), 32 PC7(ICP3/CLK0/OC4A) (io), 33 PE2(~{HWB)} (io), 34 VCC (power), 35 GND (power), 36 PF7(ADC7/TDI) (io), 37 PF6(ADC6/TDO) (io), 38 PF5(ADC5/TMS) (io), 39 PF4(ADC4/TCK) (io), 40 PF1(ADC1) (io), 41 PF0(ADC0) (io), 42 AREF, 43 GND (power), 44 AVCC (power)

## CMP-06279-000005-1
designator U?, comment MCP2562FDT-E/SN
IC TRANSCEIVER 1/1 8SOIC; Operating Supply Current: 70mA; Data Rate: 8Mbps; Number of Transceivers: 1; Receiver Hysteresis: 200mV; Max Supply Voltage: 5.5V; Min Supply Voltage: 4.5V; Weight: 0.019048oz; Package Quantity: 3300; Case/Package: SOIC; Mount: Surface Mount; Max Operating Temperature: 125°C; Min Operating Temperature: -40°C; Packaging: Tape and Reel; Number of Pins: 8
footprint FP-C04-057-SN-MFG
footprint FP-C04-057-SN-IPC_B
footprint FP-C04-057-SN-IPC_C
footprint FP-C04-057-SN-IPC_A
pins: 1 TXD (in), 2 VSS (power), 3 VDD (power), 4 RXD (out), 5 VIO (power), 6 CANL (io), 7 CANH (io), 8 STBY (in)

## CMP-07231-007668-1
designator R?, comment R003
RES 0.003 OHM 1% 3W 2512; Resistance: 3mR; Temperature Coefficient: 75ppm/°C; Mount: Surface Mount; Max Operating Temperature: 170°C; Min Operating Temperature: -55°C; Technology: METAL STRIP; Series: CRE2512; Case Code (Metric): 6432; Depth: 3.35mm; Case Code (Imperial): 2512; Width: 0.132inch; Case/Package: 2512; Packaging: Cut Tape; REACH SVHC: No SVHC; Resistance Tolerance: 1%; Termination: Solder; Tolerance: 1%; Features: Moisture Resistant; RoHS Compliant: No; Height: 0.035inch; Resistor Type: Metal Alloy; Power Rating: 3W; Number of Terminations: 2; Length: 0.254inch; Contact Plating: Tin; Max Power Dissipation: 3W
footprint FP-CRE2512-R001-R004-MFG
footprint FP-CRE2512-R001-R004-IPC_C
footprint FP-CRE2512-R001-R004-IPC_B
footprint FP-CRE2512-R001-R004-IPC_A
pins: 1, 2

## CMP-08607-000009-1
designator D?, comment SMAJ36CA
TVS DIODE 36V 58.1V DO214AC; Manufacturer: Littelfuse Inc; Peak Pulse Power: 400W; Max Junction Temp: +150°C; Direction: Bidirectional; Peak Pulse Current: 6.9A; Number Of Channels: 1; Breakdown Voltage: 40V; Lead Free: Yes; Automotive: No; Device Class L1: Circuit Protection; Digikey Description: TVS DIODE 36V 58.1V DO214AC; Package: SMAJ-CA; Manufacturer Part Number: SMAJ36CA; Mouser Description: In a Pack of 25, Littelfuse SMAJ36CA, Bi-Directional TVS Diode, 400W, 2-Pin DO-214AC; Reverse Standoff Voltage: 36V; Temperature: -65°C to +150°C; Clamping Voltage: 58.1V; Height: 2.29mm; Temperature Range High: +150°C; RoHS: TRUE; Category: Diode; ComponentLink2Description: Datasheet; Device Class L2: TVS Diodes; ComponentLink2URL: https://www.littelfuse.com/~/media/electronics/datasheets/tvs_diodes/littelfuse_tvs_diode_smaj_datasheet.pdf.pdf; Octopart: https://octopart.com/smaj36ca-littelfuse-350098; Device Class L3: unset; Temperature Range Low: -65°C
footprint FP-SMAJ-CA-MFG
pins: 1, 2

## CMP-09116-000026-1
designator U?, comment AD8418BRMZ
IC CURR SENSE 1 CIRCUIT 8MSOP; Manufacturer: Analog Devices; Min Supply Voltage: 2.7V; Input Bias Current: 130uA; Number Of Channels: 1; Max Supply Voltage: 5.5V; Voltage Gain: 0.02V/mV; Bandwidth: 250kHz; Standoff Height: 0.05mm; Nominal Supply Current: 2.6mA; Input Offset Voltage: 0.2mV; Automotive: No; Temperature: -40°C to +125°C; Octopart: https://octopart.com/ad8418brmz-analog+devices-21054230; ComponentLink2Description: Datasheet; Device Class L1: Integrated Circuits (ICs); ComponentLink2URL: https://www.analog.com/media/en/technical-documentation/data-sheets/AD8418.pdf; Digikey Description: IC CURR SENSE 1 CIRCUIT 8MSOP; Ipc Land Pattern Name: SOP65P490X110-8; Temperature Range Low: -40°C; Device Class L3: Instrumentation; Height: 1.1mm; Mouser Description: Current Sense Amplifier, Bidirectional, 1, 130 A, MSOP, 8, -40 C, 125 C; Lead Free: Yes; Manufacturer Part Number: AD8418BRMZ; Category: IC; Package: RM-8; Device Class L2: Linear ICs; Temperature Range High: +125°C; RoHS: TRUE
footprint FP-RM-8-IPC_C
footprint FP-RM-8-IPC_B
footprint FP-RM-8-IPC_A
pins: 1 -IN (hiz), 2 GND (power), 3 VREF2 (power), 4 NC, 5 OUT (out), 6 VS (power), 7 VREF1 (power), 8 +IN (hiz)

## CMP-13271-002674-1
designator C?, comment 2.2uF
Cap Ceramic 2.2uF 100V X7R ±10% SMD 1210 +125°C Embossed T/R; Contact Plating: Tin; Tolerance: 10%; Case Code (Imperial): 1210; Height: 2.5mm; Case/Package: 1210; Mount: Surface Mount; Length: 3.2mm; Width: 0.098inch; Capacitance: 2.2uF; Voltage Rating: 100V; Max Operating Temperature: 125°C; Case Code (Metric): 3225; Packaging: Tape and Reel; Depth: 2.5mm; Voltage: 100V; Package Quantity: 1; Min Operating Temperature: -55°C; Radiation Hardening: No; Thickness: 0.106inch; Dielectric: X7R
footprint FP-CL32-IPC_B
footprint FP-CL32-IPC_C
footprint FP-CL32-IPC_A
pins: 1, 2

## CMP-13271-004127-1
designator C?, comment 1uF
Cap Ceramic 1uF 25V X5R ±10% Pad SMD 0603 +85°C T/R; Height: 0.8mm; Capacitance: 1uF; Depth: 0.8mm; Package Quantity: 1; Mount: Surface Mount; Contact Plating: Tin; Voltage Rating: 25V; Dielectric: X5R; Packaging: Tape and Reel; Material: Ceramic; Case Code (Metric): 1608; Length: 1.6mm; Voltage: 25V; Min Operating Temperature: -55°C; Width: 0.031inch; Tolerance: 10%; Case/Package: 0603; Radiation Hardening: No; Case Code (Imperial): 0603; Thickness: 0.035inch; Lead Free: Lead Free; Max Operating Temperature: 85°C; Voltage Rating (DC): 25V
footprint FP-CL10-IPC_C
footprint FP-CL10-IPC_A
footprint FP-CL10-IPC_B
pins: 1, 2

## CMP-14477-000078-3
designator C?, comment 2.2uF
Multilayer Ceramic Capacitor 2.2uF 16V X7R 10% SMD 0603 T/R; Width: 0.031inch; Tolerance: 10%; Thickness: 0.035inch; Case/Package: 0603; Voltage Rating (DC): 16V; Voltage Rating: 16V; Halogen Free: Halogen Free; RoHS Compliant: Yes; Min Operating Temperature: -55°C; Length: 0.063inch; Mount: Surface Mount; Capacitance: 2.2uF; Max Operating Temperature: 125°C; Packaging: Tape and Reel
footprint FP-0603-L_1_6_0_2-W_0_8_0-IPC_C
footprint FP-0603-L_1_6_0_2-W_0_8_0-IPC_A
footprint FP-0603-L_1_6_0_2-W_0_8_0-IPC_B
footprint FP-0603-L_1_6_0_2-W_0_8_0-MFG
pins: 1, 2

## CMP-14477-000135-2
designator C?, comment 470nF
None; Dielectric: X7R; Voltage Rating: 50V; Tolerance: 10%; Series: M; Package Quantity: 1; Radiation Hardening: No; Packaging: Tape and Reel; Length: 1.6mm; Min Operating Temperature: -55°C; Case Code (Imperial): 0603; Capacitance: 470nF; Construction: Flat; Max Operating Temperature: 125°C; Thickness: 0.035inch; Case Code (Metric): 1608; Depth: 0.8mm; Voltage: 50V; Case/Package: 0603; RoHS Compliant: Yes; Mount: Surface Mount; Lead Free: Lead Free; Width: 0.031inch; Halogen Free: Halogen Free; Height: 0.8mm; Termination: SMD/SMT; Voltage Rating (DC): 50V
footprint FP-0603-L_1_6_0_1-W_0_8_0-IPC_B
footprint FP-0603-L_1_6_0_1-W_0_8_0-IPC_A
footprint FP-0603-L_1_6_0_1-W_0_8_0-IPC_C
footprint FP-0603-L_1_6_0_1-W_0_8_0-MFG
pins: 1, 2

## CMP-22017-000005-2
designator D?, comment GREEN
LED GREEN CLEAR CHIP SMD; Dominant Wavelength: 569nm; Reverse Voltage: 5V; Lens Color: Colorless; Viewing Angle: 130°; Voltage: 2V; Forward Current: 30mA; Power Dissipation: 100mW; Luminous Intensity: 6mcd; Number of LEDs: 1; Forward Voltage: 2.1V; Wavelength: 565nm; Test Current: 10mA; Min Operating Temperature: -55°C; Lens Style: Clear; Mount: Surface Mount; Width: 0.8mm; Packaging: Tape and Reel; Lens Transparency: Clear; Case Code (Metric): 1608; Depth: 0.8mm; Case Code (Imperial): 0603; Case/Package: 0603; Number of Pins: 2; Max Operating Temperature: 85°C; Lead Free: Lead Free; Number of Elements: 1; Length: 1.6mm; Height: 0.8mm; Package Quantity: 1; Power Rating: 100mW; Radiation Hardening: No; Illumination Color: Green; Color: Green
footprint FP-LTST-C190GKT-MFG
pins: 1 C, 2 A

## CMP-26527-001634-1
designator R?, comment 22R
22Ω ±5% 0.1W 0603 Thick Film Chip Resistor AEC-Q200 compliant; Temperature Coefficient: 100ppm/°C; Max Power Dissipation: 100mW; Width: 0.031inch; Tolerance: 5%; Case/Package: 0603; Features: Automotive AEC-Q200; Case Code (Metric): 1608; Height: 0.022inch; Case Code (Imperial): 0603; Mount: Surface Mount; Resistance: 22R; Packaging: Tape and Reel; Power Rating: 100mW; Series: RMCF; Length: 0.061inch; Contact Plating: Tin; RoHS Compliant: Yes; Min Operating Temperature: -55°C; Size Code: 0603; Number of Terminations: 2; Resistor Type: Thick Film; Lead Free: Lead Free; Max Operating Temperature: 155°C; Radiation Hardening: No
footprint FP-RMCF0603-IPC_C
footprint FP-RMCF0603-IPC_B
footprint FP-RMCF0603-MFG
footprint FP-RMCF0603-IPC_A
pins: 1, 2

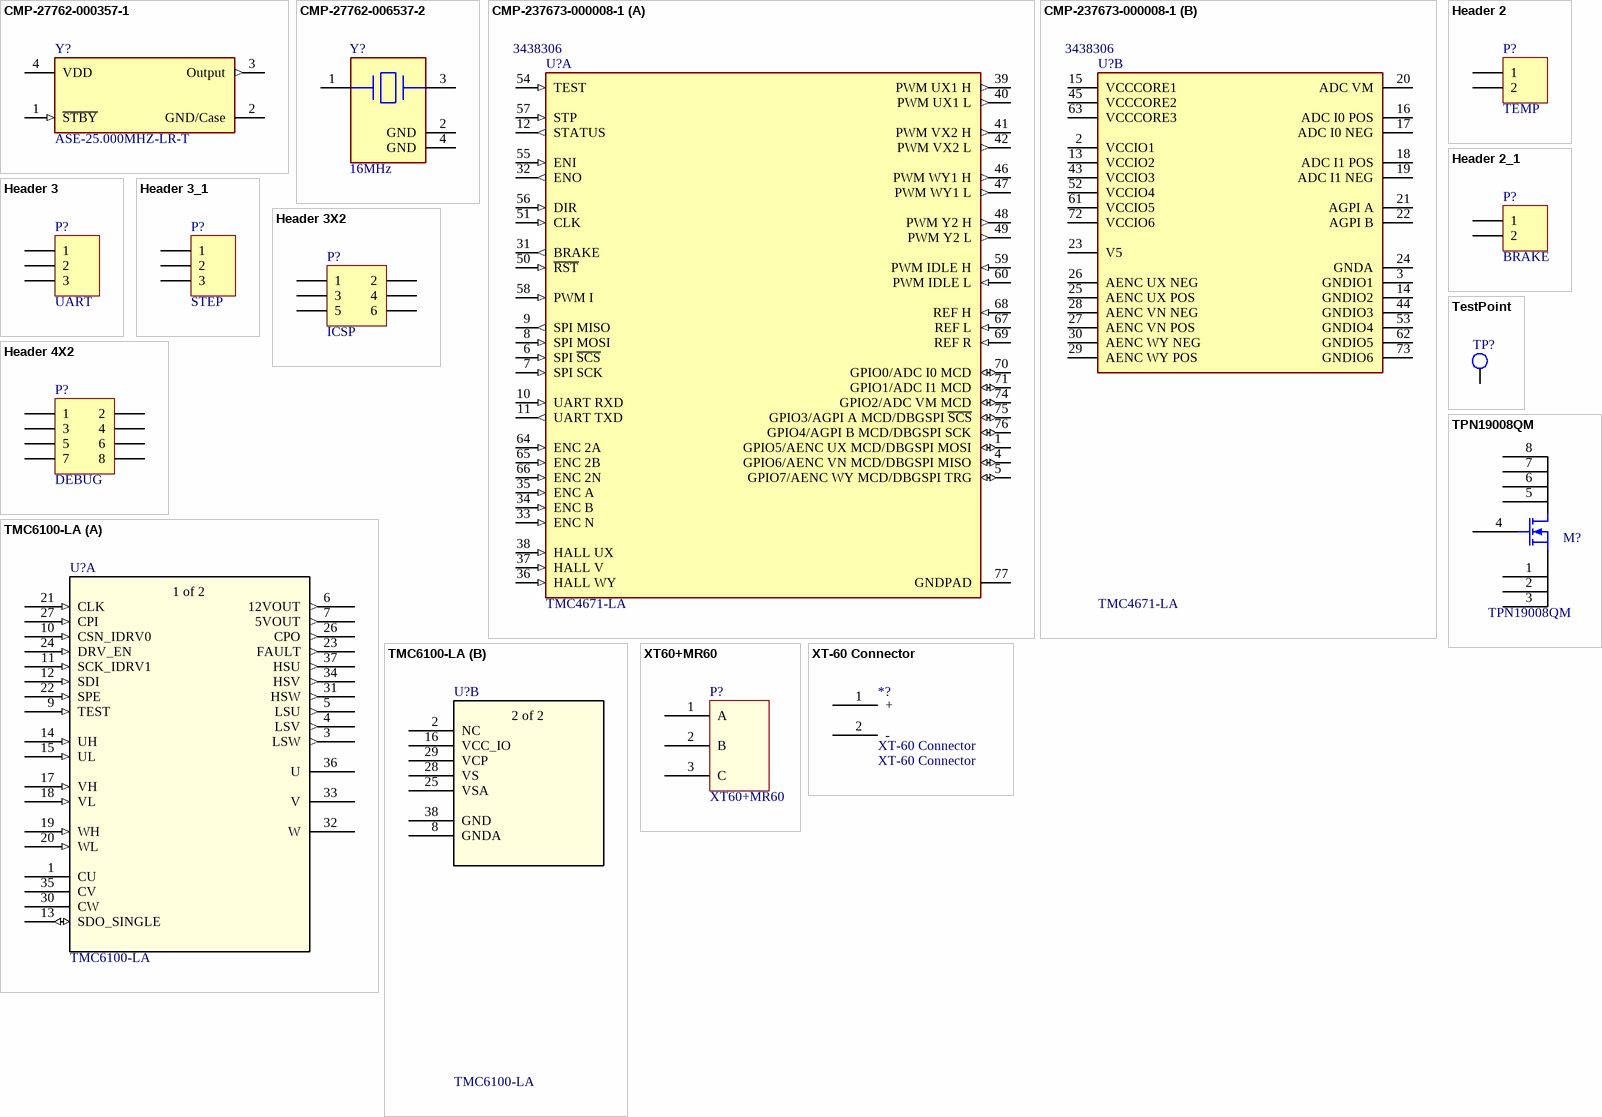
[diagram p1: symbols CMP-27762-000357-1 to XT-60 Connector]

## CMP-27762-000357-1
designator Y?, comment ASE-25.000MHZ-LR-T
XTAL Oscillator 25MHz ±25ppm CMOS 3.3V 4-SMD 3.2mm x 2.5mm; Min Supply Voltage: 3.135V; Max Supply Current: 13mA; Max Supply Voltage: 3.465V; Load Capacitance: 15pF; Height: 0.047inch; Series: ASE; Frequency Stability: 25ppm; Mount: Surface Mount; Case/Package: SMD/SMT; Width: 0.098inch; Operating Frequency: 25 MHz; REACH SVHC: No SVHC; Package Quantity: 1000; Number of Pins: 4; Termination: SMD/SMT; Frequency: 25MHz; Max Operating Temperature: 85°C; Packaging: Tape and Reel; Min Operating Temperature: -40°C; Lead Free: Lead Free; Length: 0.126inch; Operating Supply Voltage: 3.3V
footprint FP-ASE-MFG
pins: 1 ~{STBY} (in), 2 GND/Case (power), 3 Output (out), 4 VDD (power)

## CMP-27762-006537-2
designator Y?, comment 16MHz
Crystal 16MHz ±20ppm (Tol) ±30ppm (Stability) 18pF FUND 80Ω 4-Pin SMD T/R; Series Resistance: 80R; Radiation Hardening: No; Load Capacitance: 18pF; Package Quantity: 1000; Frequency Stability: 30ppm; ESR (Equivalent Series Resistance): 80R; Depth: 2.5mm; Height: 1mm; Number of Pins: 4; Frequency Tolerance: 20ppm; Frequency: 16MHz; Tolerance: 20ppm; Min Operating Temperature: -40°C; Length: 3.2mm; Termination: SMD/SMT; Max Operating Temperature: 85°C; Width: 2.5mm; Series: ABM8G; Mount: Surface Mount; Case/Package: CSMD; Lead Free: Lead Free; Operating Frequency: 16 MHz; Packaging: Tape and Reel
footprint FP-ABM8G-MFG
pins: 1, 2 GND (power), 3, 4 GND (power)

## CMP-237673-000008-1
designator U?, comment TMC4671-LA  Supplier Part Number 1: 3438306
SERVO CONTROLLER IC, QFN76; Supplier 1: Farnell
footprint FP-TMC4671-LA-IPC_C
footprint FP-TMC4671-LA-IPC_B
footprint FP-TMC4671-LA-IPC_A
part A pins: 1 GPIO5/AENC UX MCD/DBGSPI MOSI (io), 4 GPIO6/AENC VN MCD/DBGSPI MISO (io), 5 GPIO7/AENC WY MCD/DBGSPI TRG (io), 6 SPI ~{SCS} (in), 7 SPI SCK (in), 8 SPI MOSI (in), 9 SPI MISO (out), 10 UART RXD (in), 11 UART TXD (out), 12 STATUS (out), 31 BRAKE (out), 32 ENO (out), 33 ENC N (in), 34 ENC B (in), 35 ENC A (in), 36 HALL WY (in), 37 HALL V (in), 38 HALL UX (in), 39 PWM UX1 H (out), 40 PWM UX1 L (out), 41 PWM VX2 H (out), 42 PWM VX2 L (out), 46 PWM WY1 H (out), 47 PWM WY1 L (out), 48 PWM Y2 H (out), 49 PWM Y2 L (out), 50 ~{RST} (in), 51 CLK (in), 54 TEST (in), 55 ENI (in), 56 DIR (in), 57 STP (in), 58 PWM I (in), 59 PWM IDLE H (in), 60 PWM IDLE L (in), 64 ENC 2A (in), 65 ENC 2B (in), 66 ENC 2N (in), 67 REF L (in), 68 REF H (in), 69 REF R (in), 70 GPIO0/ADC I0 MCD (io), 71 GPIO1/ADC I1 MCD (io), 74 GPIO2/ADC VM MCD (io), 75 GPIO3/AGPI A MCD/DBGSPI ~{SCS} (io), 76 GPIO4/AGPI B MCD/DBGSPI SCK (io), 77 GNDPAD (power)
part B pins: 2 VCCIO1 (power), 3 GNDIO1 (power), 13 VCCIO2 (power), 14 GNDIO2 (power), 15 VCCCORE1 (power), 16 ADC I0 POS, 17 ADC I0 NEG, 18 ADC I1 POS, 19 ADC I1 NEG, 20 ADC VM, 21 AGPI A, 22 AGPI B, 23 V5 (power), 24 GNDA (power), 25 AENC UX POS, 26 AENC UX NEG, 27 AENC VN POS, 28 AENC VN NEG, 29 AENC WY POS, 30 AENC WY NEG, 43 VCCIO3 (power), 44 GNDIO3 (power), 45 VCCCORE2 (power), 52 VCCIO4 (power), 53 GNDIO4 (power), 61 VCCIO5 (power), 62 GNDIO5 (power), 63 VCCCORE3 (power), 72 VCCIO6 (power), 73 GNDIO6 (power)

## Header 2
designator P?, comment TEMP
Header, 2-Pin; LatestRevisionDate: 17-Jul-2002; LatestRevisionNote: Re-released for DXP Platform.; Publisher: Altium Limited
footprint HDR1X2 (Connector; Header; 2 Position)
signal-integrity model Connector
pins: 1, 2

## Header 2_1
designator P?, comment BRAKE
Header, 2-Pin; LatestRevisionDate: 17-Jul-2002; LatestRevisionNote: Re-released for DXP Platform.; Publisher: Altium Limited
footprint HDR1X2 (Connector; Header; 2 Position)
signal-integrity model Connector
pins: 1, 2

## Header 3
designator P?, comment UART
Header, 3-Pin; LatestRevisionDate: 17-Jul-2002; LatestRevisionNote: Re-released for DXP Platform.; Publisher: Altium Limited
footprint HDR1X3 (Connector; Header; 3 Position)
signal-integrity model Connector
pins: 1, 2, 3

## Header 3_1
designator P?, comment STEP
Header, 3-Pin; LatestRevisionDate: 17-Jul-2002; LatestRevisionNote: Re-released for DXP Platform.; Publisher: Altium Limited
footprint HDR1X3 (Connector; Header; 3 Position)
signal-integrity model Connector
pins: 1, 2, 3

## Header 3X2
designator P?, comment ICSP
Header, 3-Pin, Dual row; LatestRevisionDate: 17-Jul-2002; LatestRevisionNote: Re-released for DXP Platform.; Publisher: Altium Limited
footprint HDR2X3 (Connector; Header; 3x2 Position)
signal-integrity model Connector
pins: 1, 2, 3, 4, 5, 6

## Header 4X2
designator P?, comment DEBUG
Header, 4-Pin, Dual row; LatestRevisionDate: 17-Jul-2002; LatestRevisionNote: Re-released for DXP Platform.; Publisher: Altium Limited
footprint HDR2X4 (Connector; Header; 4x2 Position)
signal-integrity model Connector
pins: 1, 2, 3, 4, 5, 6, 7, 8

## TestPoint
designator TP?  (value not drawn)  (no BOM)
footprint PCBComponent_1
pins: 1

## TMC6100-LA
designator U?
No Description Available; Mfr_Name: Trinamic; RefDes: RefDes; Type: Type
footprint QFN37_7X7_TRI-M
part A pins: 1 CU, 3 LSW (out), 4 LSV (out), 5 LSU (out), 6 12VOUT (out), 7 5VOUT (out), 9 TEST (in), 10 CSN_IDRV0 (in), 11 SCK_IDRV1 (in), 12 SDI (in), 13 SDO_SINGLE (io), 14 UH (in), 15 UL (in), 17 VH (in), 18 VL (in), 19 WH (in), 20 WL (in), 21 CLK (in), 22 SPE (in), 23 FAULT (out), 24 DRV_EN (in), 26 CPO (out), 27 CPI (in), 30 CW, 31 HSW (out), 32 W, 33 V, 34 HSV (out), 35 CV, 36 U, 37 HSU (out)
part B pins: 2 NC, 8 GNDA (power), 16 VCC_IO (power), 25 VSA (power), 28 VS (power), 29 VCP (power), 38 GND (power)
part A text: 1 of 2
part B text: 2 of 2

## TPN19008QM
designator M?
No Description Available; Mfr_Name: Toshiba Electronic Devices & Storage Corp.; RefDes: RefDes; Type: Type
footprint TSON Advance_TOS
pins: 1 SOURCE, 2 SOURCE, 3 SOURCE, 4 GATE, 5 DRAIN, 6 DRAIN, 7 DRAIN, 8 DRAIN

## XT60+MR60
designator P?
footprint XT60+MR60
pins: 1 A, 2 B, 3 C

## XT-60 Connector
designator *?
Manufacturer: POLOLU; Manufacturer Part Number: XT60 YELLOW; Unit: pcs; SuppliedAmount: 0; MinAmount: 1; Type of robotics accessories: power connector; Maximum current: 65A; Information: Product is not a working device, but only component; Supplier 1: TME; Category: Power Supply Modules; Stock 1: 29; Pricing 1: 1=2.08, 10=1.95 (USD); Weight: 7.267; Multiples: 1; Number of pins: 2; Colour: yellow; Price Type: NET; ComponentLink1URL: http://static.tme.eu/products_pics/8/b/5/8b5040a8a5baf3e0e67386c2e3a9b903/913.jpg; ComponentLink1Description: http://static.tme.eu/products_pics/8/b/5/8b5040a8a5baf3e0e67386c2e3a9b903/913.jpg; Supplier Part Number 1: XT-60 Connector
footprint XT-60 (Battery Connector)
pins: 1 + (power), 2 - (power)